# EAGLE library part BTM-620 (library rayson__btm_bluetooth_modul)
The module is a Max.18dBm( Class 1 ) module. Bluetooth Standard v2.1+EDR. Integrated Switched-Mode Regulator. Integrated Battery Charger. Embedded Kalimba DSP Co-Processor. Integrated 16-bit Stereo Audio CODEC 95dB SNR for DAC. Enhanced Audibility and Noise Cancellation. Integrated with 8M bits flash memory. Support Host Interface: USB or UART. Support Digital Audio Bus : PCM, I2S or SPDIF. HSP/HFP/A2DP/AVRCP profiles support. RoHS compliant. Small outline. 21 x 16 x 2 mm.
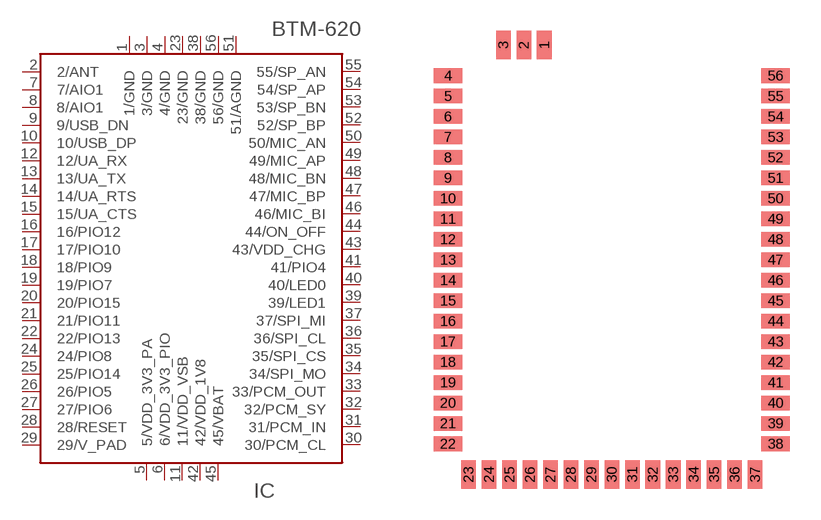
[diagram p6: symbol with the pads of BTM-620; footprint BTM-620]

Designator prefix IC

## BTM-620  [BTM-620]
1  1/GND  pwr
2  2/ANT
3  3/GND  pwr
4  4/GND  pwr
5  5/VDD_3V3_PA  pwr
6  6/VDD_3V3_PIO  pwr
7  7/AIO1
8  8/AIO1
9  9/USB_DN
10  10/USB_DP
11  11/VDD_VSB  pwr
12  12/UA_RX
13  13/UA_TX
14  14/UA_RTS
15  15/UA_CTS
16  16/PIO12
17  17/PIO10
18  18/PIO9
19  19/PIO7
20  20/PIO15
21  21/PIO11
22  22/PIO13
23  23/GND  pwr
24  24/PIO8
25  25/PIO14
26  26/PIO5
27  27/PIO6
28  28/RESET  in
29  29/V_PAD  in
30  30/PCM_CL  in
31  31/PCM_IN  in
32  32/PCM_SY
33  33/PCM_OUT  out
34  34/SPI_MO  in
35  35/SPI_CS  in
36  36/SPI_CL  in
37  37/SPI_MI  out
38  38/GND  pwr
39  39/LED1  out
40  40/LED0  out
41  41/PIO4
42  42/VDD_1V8  pwr
43  43/VDD_CHG  in
44  44/ON_OFF
45  45/VBAT  pwr
46  46/MIC_BI
47  47/MIC_BP  in
48  48/MIC_BN  in
49  49/MIC_AP  in
50  50/MIC_AN  in
51  51/AGND  pwr
52  52/SP_BP  out
53  53/SP_BN  out
54  54/SP_AP  out
55  55/SP_AN  out
56  56/GND  pwr

## Footprint BTM-620 (pad centres in mm)
smd 0.71 x 1.4: 1 -3.3,10.5; 2 -4.3,10.5; 3 -5.3,10.5; 23 -7,-10.5; 24 -6,-10.5; 25 -5,-10.5; 26 -4,-10.5; 27 -3,-10.5; 28 -2,-10.5; 29 -1,-10.5; 30 0,-10.5; 31 1,-10.5; 32 2,-10.5; 33 3,-10.5; 34 4,-10.5; 35 5,-10.5; 36 6,-10.5; 37 7,-10.5
smd 1.4 x 0.71: 4 -8,9; 5 -8,8; 6 -8,7; 7 -8,6; 8 -8,5; 9 -8,4; 10 -8,3; 11 -8,2; 12 -8,1; 13 -8,0; 14 -8,-1; 15 -8,-2; 16 -8,-3; 17 -8,-4; 18 -8,-5; 19 -8,-6; 20 -8,-7; 21 -8,-8; 22 -8,-9; 38 8,-9; 39 8,-8; 40 8,-7; 41 8,-6; 42 8,-5; 43 8,-4; 44 8,-3; 45 8,-2; 46 8,-1; 47 8,0; 48 8,1; 49 8,2; 50 8,3; 51 8,4; 52 8,5; 53 8,6; 54 8,7; 55 8,8; 56 8,9